# Altium integrated library TI Power Management Linear Regulator Single Channel LDO (0-350mA).IntLib: 1648 symbols (part 13 of 66)
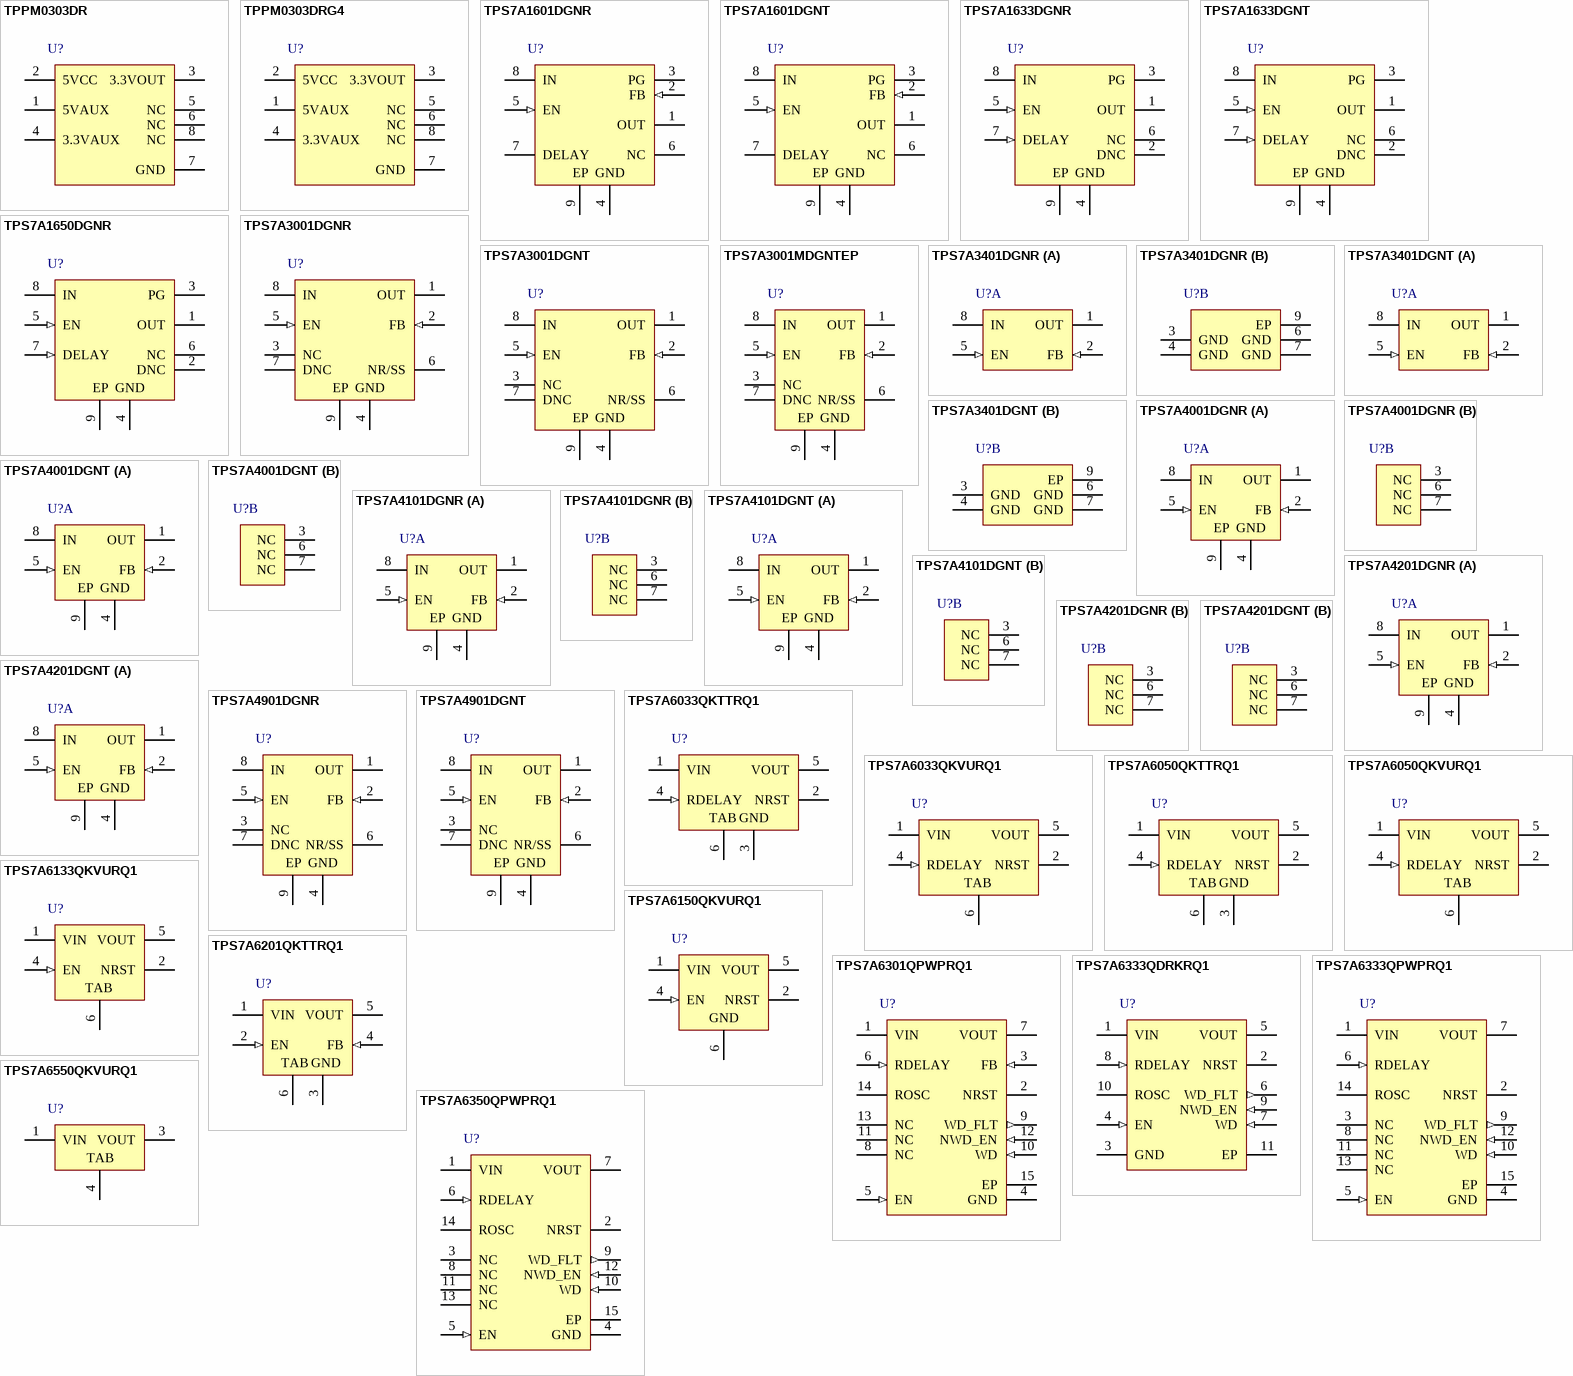
[diagram p54: symbols TPPM0303DR to TPS7A6550QKVURQ1]

## TPS7A3401DGNR
designator U?
Single Output Low Noise LDO, 200 mA, Adjustable -1.18 to -18 V Output, -3 to -20 V Input, 8-pin MSOP (DGN), -40 to 125 degC, Green (RoHS & no Sb/Br); Manufacturer: Texas Instruments; PartNumber: TPS7A3401DGNR; Accuracy(%): 1.5; Iout(Max)(A): 0.2; Iq(Typ)(mA): 0.05; SubFamily: Single Channel LDO; Vdo(Typ)(mV): 216; DatasheetVersion: SBVS163; PackageVersion: 4073271/F; PackageReference: DGN8-1760X1425TP; PackageDescription: 8-pin Plastic Small Outline, Body 3 x 3 mm, Pitch 0.65 mm; Supplier 1: Digi-Key; Supplier Part Number 1: 296-29103-2-ND; Supplier 2: Digi-Key; Supplier Part Number 2: 296-29103-1-ND; Supplier 3: Digi-Key; Supplier Part Number 3: 296-29103-6-ND; Supplier 4: Farnell; Supplier Part Number 4: 1972808; Supplier 5: Farnell; Supplier Part Number 5: 1972808RL; Supplier 6: Newark; Supplier Part Number 6: 59T0131; Supplier 7: Newark; Supplier Part Number 7: 58T0349; Supplier 8: Mouser; Supplier Part Number 8: 595-TPS7A3401DGNR; Eco-Plan: Green (RoHS & no Sb/Br); Vin(Max)(V): -20; Vin(Min)(V): -3; Vout Adj(Max)(V): -18; Vout Adj(Min)(V): -1.18; Mounting Technology: Surface Mount; Code_JEDEC: MO-187; ComponentLink1Description: Manufacturer URL; ComponentLink1URL: http://www.ti.com/; ComponentLink2Description: Datasheet; ComponentLink2URL: http://www.ti.com/general/docs/lit/getliterature.tsp?genericPartNumber=TPS7A3401&fileType=pdf; ComponentLink3Description: Package Specification; ComponentLink3URL: http://www.ti.com/litv/pdf/mpds046e
footprint TI-DGN8-1760X1425TP_N (SOIC, 8-Leads, Body 3x3mm, Pitch 0.65mm, Thermal Pad 1.76x1.425mm, IPC Medium Density)
footprint TI-DGN8-1760X1425TP_L (SOIC, 8-Leads, Body 3x3mm, Pitch 0.65mm, Thermal Pad 1.76x1.425mm, IPC High Density)
footprint TI-DGN8-1760X1425TP_M (SOIC, 8-Leads, Body 3x3mm, Pitch 0.65mm, Thermal Pad 1.76x1.425mm, IPC Low Density)
part A pins: 1 OUT (power) "Regulator output. A capacitor >= 10 uF must be tied from this pin to ground to assure stability.", 2 FB (in) "This pin is the input to the control-loop error amplifier. It is used to set the output voltage of the device.", 5 EN (in) "This pin turns the regulator on or off. If VEN >= V+EN_HI or VEN =< V-EN_HI, the regulator is enabled. If V+EN_LO >= VEN >= V-EN_LO, the regulator is disabled. The EN pin can be connected to IN, if not used. |VEN| =< |VIN|.", 8 IN (power) "Input supply"
part B pins: 3 GND (power) "Ground", 4 GND (power) "Ground", 6 GND (power) "Ground", 7 GND (power) "Ground", 9 EP (power) "Must either be left open or tied to GND. Solder to printed circuit board (PCB) plane to enhance thermal performance."

## TPS7A3401DGNT
designator U?
Single Output Low Noise LDO, 200 mA, Adjustable -1.18 to -18 V Output, -3 to -20 V Input, 8-pin MSOP (DGN), -40 to 125 degC, Green (RoHS & no Sb/Br); Manufacturer: Texas Instruments; PartNumber: TPS7A3401DGNT; Accuracy(%): 1.5; Iout(Max)(A): 0.2; Iq(Typ)(mA): 0.05; SubFamily: Single Channel LDO; Vdo(Typ)(mV): 216; DatasheetVersion: SBVS163; PackageVersion: 4073271/F; PackageReference: DGN8-1760X1425TP; PackageDescription: 8-pin Plastic Small Outline, Body 3 x 3 mm, Pitch 0.65 mm; Supplier 1: Digi-Key; Supplier Part Number 1: 296-29296-2-ND; Supplier 2: Digi-Key; Supplier Part Number 2: 296-29296-1-ND; Supplier 3: Digi-Key; Supplier Part Number 3: 296-29296-6-ND; Supplier 4: Farnell; Supplier Part Number 4: 1994878; Supplier 5: Newark; Supplier Part Number 5: 57T9644; Supplier 6: Mouser; Supplier Part Number 6: 595-TPS7A3401DGNT; Eco-Plan: Green (RoHS & no Sb/Br); Vin(Max)(V): -20; Vin(Min)(V): -3; Vout Adj(Max)(V): -18; Vout Adj(Min)(V): -1.18; Mounting Technology: Surface Mount; Code_JEDEC: MO-187; ComponentLink1Description: Manufacturer URL; ComponentLink1URL: http://www.ti.com/; ComponentLink2Description: Datasheet; ComponentLink2URL: http://www.ti.com/general/docs/lit/getliterature.tsp?genericPartNumber=TPS7A3401&fileType=pdf; ComponentLink3Description: Package Specification; ComponentLink3URL: http://www.ti.com/litv/pdf/mpds046e
footprint TI-DGN8-1760X1425TP_N (SOIC, 8-Leads, Body 3x3mm, Pitch 0.65mm, Thermal Pad 1.76x1.425mm, IPC Medium Density)
footprint TI-DGN8-1760X1425TP_L (SOIC, 8-Leads, Body 3x3mm, Pitch 0.65mm, Thermal Pad 1.76x1.425mm, IPC High Density)
footprint TI-DGN8-1760X1425TP_M (SOIC, 8-Leads, Body 3x3mm, Pitch 0.65mm, Thermal Pad 1.76x1.425mm, IPC Low Density)
part A pins: 1 OUT (power) "Regulator output. A capacitor >= 10 uF must be tied from this pin to ground to assure stability.", 2 FB (in) "This pin is the input to the control-loop error amplifier. It is used to set the output voltage of the device.", 5 EN (in) "This pin turns the regulator on or off. If VEN >= V+EN_HI or VEN =< V-EN_HI, the regulator is enabled. If V+EN_LO >= VEN >= V-EN_LO, the regulator is disabled. The EN pin can be connected to IN, if not used. |VEN| =< |VIN|.", 8 IN (power) "Input supply"
part B pins: 3 GND (power) "Ground", 4 GND (power) "Ground", 6 GND (power) "Ground", 7 GND (power) "Ground", 9 EP (power) "Must either be left open or tied to GND. Solder to printed circuit board (PCB) plane to enhance thermal performance."

## TPS7A4001DGNR
designator U?
Single Output LDO, 50 mA, Adjustable 1.175 to 90 V Output, 7 to 100 V Input, 8-pin MSOP (DGN), -40 to 125 degC, Green (RoHS & no Sb/Br); Manufacturer: Texas Instruments; PartNumber: TPS7A4001DGNR; Accuracy(%): 2.5; Iout(Max)(A): 0.05; Iq(Typ)(mA): 0.02; SubFamily: Single Channel LDO; Vdo(Typ)(mV): 290; Vin(Max)(V): 100; Vin(Min)(V): 7; Vout Adj(Max)(V): 90; Vout Adj(Min)(V): 1.2; DatasheetVersion: SBVS162A; PackageVersion: 4073271/F; PackageReference: DGN8-1880X1750TP; PackageDescription: 8-Pin Plastic Small Outline, Body 3 x 3 mm, Pitch 0.65 mm; Supplier 1: Digi-Key; Supplier Part Number 1: TPS7A4001DGNR-ND; Supplier 2: Newark; Supplier Part Number 2: 40T5454; Supplier 3: Mouser; Supplier Part Number 3: 595-TPS7A4001DGNR; Eco-Plan: Green (RoHS & no Sb/Br); Mounting Technology: Surface Mount; Code_JEDEC: MO-187; ComponentLink1Description: Manufacturer URL; ComponentLink1URL: http://www.ti.com/; ComponentLink2Description: Datasheet; ComponentLink2URL: http://www.ti.com/general/docs/lit/getliterature.tsp?genericPartNumber=TPS7A4001&fileType=pdf; ComponentLink3Description: Package Specification; ComponentLink3URL: http://www.ti.com/litv/pdf/mpds046e
footprint TI-DGN8-1880X1750TP_N (SOP, 8-Leads, Body 3x3mm, Pitch 0.65mm, Thermal Pad 1.88x1.75mm, IPC Medium Density)
footprint TI-DGN8-1880X1750TP_L (SOP, 8-Leads, Body 3x3mm, Pitch 0.65mm, Thermal Pad 1.88x1.75mm, IPC High Density)
footprint TI-DGN8-1880X1750TP_M (SOP, 8-Leads, Body 3x3mm, Pitch 0.65mm, Thermal Pad 1.88x1.75mm, IPC Low Density)
part A pins: 1 OUT (power) "Regulator output. A capacitor greater than 4.7 uF must be tied from this pin to ground to assure stability.", 2 FB (in) "This pin is the input to the control-loop error amplifier. It is used to set the output voltage of the device.", 4 GND (power) "Ground", 5 EN (in) "This pin turns the regulator on or off. If VEN >= VEN_HI the regulator is enabled. If VEN =< VEN_LO, the regulator is disabled. If not used, the EN pin can be connected to IN. Make sure that VEN =< VIN at all times.", 8 IN (power) "Input supply", 9 EP (power) "Solder to printed circuit board (PCB) to enhance thermal performance. NOTE: The PowerPAD is internally connected to GND. Although it can be left floating, it is highly recommended to connect the PowerPAD to the GND plane."
part B pins: 3 NC "Not internally connected. This pin must either be left open or tied to GND.", 6 NC "Not internally connected. This pin must either be left open or tied to GND.", 7 NC "Not internally connected. This pin must either be left open or tied to GND."

## TPS7A4001DGNT
designator U?
Single Output LDO, 50 mA, Adjustable 1.175 to 90 V Output, 7 to 100 V Input, 8-pin MSOP (DGN), -40 to 125 degC, Green (RoHS & no Sb/Br); Manufacturer: Texas Instruments; PartNumber: TPS7A4001DGNT; Accuracy(%): 2.5; Iout(Max)(A): 0.05; Iq(Typ)(mA): 0.02; SubFamily: Single Channel LDO; Vdo(Typ)(mV): 290; Vin(Max)(V): 100; Vin(Min)(V): 7; Vout Adj(Max)(V): 90; Vout Adj(Min)(V): 1.2; DatasheetVersion: SBVS162A; PackageVersion: 4073271/F; PackageReference: DGN8-1880X1750TP; PackageDescription: 8-Pin Plastic Small Outline, Body 3 x 3 mm, Pitch 0.65 mm; Supplier 1: Digi-Key; Supplier Part Number 1: 296-28330-2-ND; Supplier 2: Digi-Key; Supplier Part Number 2: 296-28330-1-ND; Supplier 3: Digi-Key; Supplier Part Number 3: 296-28330-6-ND; Supplier 4: Farnell; Supplier Part Number 4: 1898986; Supplier 5: Farnell; Supplier Part Number 5: 1898986RL; Supplier 6: Newark; Supplier Part Number 6: 40T5455; Supplier 7: Mouser; Supplier Part Number 7: 595-TPS7A4001DGNT; Eco-Plan: Green (RoHS & no Sb/Br); Mounting Technology: Surface Mount; Code_JEDEC: MO-187; ComponentLink1Description: Manufacturer URL; ComponentLink1URL: http://www.ti.com/; ComponentLink2Description: Datasheet; ComponentLink2URL: http://www.ti.com/general/docs/lit/getliterature.tsp?genericPartNumber=TPS7A4001&fileType=pdf; ComponentLink3Description: Package Specification; ComponentLink3URL: http://www.ti.com/litv/pdf/mpds046e
footprint TI-DGN8-1880X1750TP_N (SOP, 8-Leads, Body 3x3mm, Pitch 0.65mm, Thermal Pad 1.88x1.75mm, IPC Medium Density)
footprint TI-DGN8-1880X1750TP_L (SOP, 8-Leads, Body 3x3mm, Pitch 0.65mm, Thermal Pad 1.88x1.75mm, IPC High Density)
footprint TI-DGN8-1880X1750TP_M (SOP, 8-Leads, Body 3x3mm, Pitch 0.65mm, Thermal Pad 1.88x1.75mm, IPC Low Density)
part A pins: 1 OUT (power) "Regulator output. A capacitor greater than 4.7 uF must be tied from this pin to ground to assure stability.", 2 FB (in) "This pin is the input to the control-loop error amplifier. It is used to set the output voltage of the device.", 4 GND (power) "Ground", 5 EN (in) "This pin turns the regulator on or off. If VEN >= VEN_HI the regulator is enabled. If VEN =< VEN_LO, the regulator is disabled. If not used, the EN pin can be connected to IN. Make sure that VEN =< VIN at all times.", 8 IN (power) "Input supply", 9 EP (power) "Solder to printed circuit board (PCB) to enhance thermal performance. NOTE: The PowerPAD is internally connected to GND. Although it can be left floating, it is highly recommended to connect the PowerPAD to the GND plane."
part B pins: 3 NC "Not internally connected. This pin must either be left open or tied to GND.", 6 NC "Not internally connected. This pin must either be left open or tied to GND.", 7 NC "Not internally connected. This pin must either be left open or tied to GND."

## TPS7A4101DGNR
designator U?
Single Output LDO, 50 mA, Adjustable 1.175 to 48 V Output, 7 to 50 V Input, 8-pin MSOP (DGN), -40 to 125 degC, Green (RoHS & no Sb/Br); Manufacturer: Texas Instruments; PartNumber: TPS7A4101DGNR; Accuracy(%): 1; Iout(Max)(A): 0.05; Iq(Typ)(mA): 0.02; SubFamily: Single Channel LDO; Vdo(Typ)(mV): 290; Vin(Max)(V): 50; Vin(Min)(V): 7; Vout Adj(Max)(V): 48; Vout Adj(Min)(V): 1.161; DatasheetVersion: SBVS183; PackageVersion: 4073271/F; PackageReference: DGN8-1880X1750TP; PackageDescription: 8-Pin Plastic Small Outline, Body 3 x 3 mm, Pitch 0.65 mm; Supplier 1: Digi-Key; Supplier Part Number 1: 296-30081-2-ND; Supplier 2: Digi-Key; Supplier Part Number 2: 296-30081-1-ND; Supplier 3: Digi-Key; Supplier Part Number 3: 296-30081-6-ND; Supplier 4: Mouser; Supplier Part Number 4: 595-TPS7A4101DGNR; Eco-Plan: Green (RoHS & no Sb/Br); Mounting Technology: Surface Mount; Code_JEDEC: MO-187; ComponentLink1Description: Manufacturer URL; ComponentLink1URL: http://www.ti.com/; ComponentLink2Description: Datasheet; ComponentLink2URL: http://www.ti.com/general/docs/lit/getliterature.tsp?genericPartNumber=TPS7A4101&fileType=pdf; ComponentLink3Description: Package Specification; ComponentLink3URL: http://www.ti.com/litv/pdf/mpds046e
footprint TI-DGN8-1880X1750TP_N (SOP, 8-Leads, Body 3x3mm, Pitch 0.65mm, Thermal Pad 1.88x1.75mm, IPC Medium Density)
footprint TI-DGN8-1880X1750TP_L (SOP, 8-Leads, Body 3x3mm, Pitch 0.65mm, Thermal Pad 1.88x1.75mm, IPC High Density)
footprint TI-DGN8-1880X1750TP_M (SOP, 8-Leads, Body 3x3mm, Pitch 0.65mm, Thermal Pad 1.88x1.75mm, IPC Low Density)
part A pins: 1 OUT (power) "Regulator output. A capacitor greater than 4.7 uF must be tied from this pin to ground to assure stability.", 2 FB (in) "This pin is the input to the control-loop error amplifier. It is used to set the output voltage of the device.", 4 GND (power) "Ground", 5 EN (in) "This pin turns the regulator on or off. If VEN >= VEN_HI the regulator is enabled. If VEN =< VEN_LO, the regulator is disabled. If not used, the EN pin can be connected to IN. Make sure that VEN =< VIN at all times.", 8 IN (power) "Input supply", 9 EP (power) "Solder to printed circuit board (PCB) to enhance thermal performance. NOTE: The PowerPAD is internally connected to GND. Although it can be left floating, it is highly recommended to connect the PowerPAD to the GND plane."
part B pins: 3 NC "Not internally connected. This pin must either be left open or tied to GND.", 6 NC "Not internally connected. This pin must either be left open or tied to GND.", 7 NC "Not internally connected. This pin must either be left open or tied to GND."

## TPS7A4101DGNT
designator U?
Single Output LDO, 50 mA, Adjustable 1.175 to 48 V Output, 7 to 50 V Input, 8-pin MSOP (DGN), -40 to 125 degC, Green (RoHS & no Sb/Br); Manufacturer: Texas Instruments; PartNumber: TPS7A4101DGNT; Accuracy(%): 1; Iout(Max)(A): 0.05; Iq(Typ)(mA): 0.02; SubFamily: Single Channel LDO; Vdo(Typ)(mV): 290; Vin(Max)(V): 50; Vin(Min)(V): 7; Vout Adj(Max)(V): 48; Vout Adj(Min)(V): 1.161; DatasheetVersion: SBVS183; PackageVersion: 4073271/F; PackageReference: DGN8-1880X1750TP; PackageDescription: 8-Pin Plastic Small Outline, Body 3 x 3 mm, Pitch 0.65 mm; Supplier 1: Digi-Key; Supplier Part Number 1: 296-30184-2-ND; Supplier 2: Digi-Key; Supplier Part Number 2: 296-30184-1-ND; Supplier 3: Digi-Key; Supplier Part Number 3: 296-30184-6-ND; Supplier 4: Farnell; Supplier Part Number 4: 2078550; Supplier 5: Newark; Supplier Part Number 5: 82T9740; Supplier 6: Mouser; Supplier Part Number 6: 595-TPS7A4101DGNT; Eco-Plan: Green (RoHS & no Sb/Br); Mounting Technology: Surface Mount; Code_JEDEC: MO-187; ComponentLink1Description: Manufacturer URL; ComponentLink1URL: http://www.ti.com/; ComponentLink2Description: Datasheet; ComponentLink2URL: http://www.ti.com/general/docs/lit/getliterature.tsp?genericPartNumber=TPS7A4101&fileType=pdf; ComponentLink3Description: Package Specification; ComponentLink3URL: http://www.ti.com/litv/pdf/mpds046e
footprint TI-DGN8-1880X1750TP_N (SOP, 8-Leads, Body 3x3mm, Pitch 0.65mm, Thermal Pad 1.88x1.75mm, IPC Medium Density)
footprint TI-DGN8-1880X1750TP_L (SOP, 8-Leads, Body 3x3mm, Pitch 0.65mm, Thermal Pad 1.88x1.75mm, IPC High Density)
footprint TI-DGN8-1880X1750TP_M (SOP, 8-Leads, Body 3x3mm, Pitch 0.65mm, Thermal Pad 1.88x1.75mm, IPC Low Density)
part A pins: 1 OUT (power) "Regulator output. A capacitor greater than 4.7 uF must be tied from this pin to ground to assure stability.", 2 FB (in) "This pin is the input to the control-loop error amplifier. It is used to set the output voltage of the device.", 4 GND (power) "Ground", 5 EN (in) "This pin turns the regulator on or off. If VEN >= VEN_HI the regulator is enabled. If VEN =< VEN_LO, the regulator is disabled. If not used, the EN pin can be connected to IN. Make sure that VEN =< VIN at all times.", 8 IN (power) "Input supply", 9 EP (power) "Solder to printed circuit board (PCB) to enhance thermal performance. NOTE: The PowerPAD is internally connected to GND. Although it can be left floating, it is highly recommended to connect the PowerPAD to the GND plane."
part B pins: 3 NC "Not internally connected. This pin must either be left open or tied to GND.", 6 NC "Not internally connected. This pin must either be left open or tied to GND.", 7 NC "Not internally connected. This pin must either be left open or tied to GND."

## TPS7A4201DGNR
designator U?
Single Output LDO, 50 mA, Adjustable 1.175 to 26 V Output, 7 to 28 V Input, 8-pin MSOP (DGN), -40 to 125 degC, Green (RoHS & no Sb/Br); Manufacturer: Texas Instruments; PartNumber: TPS7A4201DGNR; Accuracy(%): 1; Iout(Max)(A): 0.05; Iq(Typ)(mA): 0.02; SubFamily: Single Channel LDO; Vdo(Typ)(mV): 290; Vin(Max)(V): 28; Vin(Min)(V): 7; Vout Adj(Max)(V): 26; Vout Adj(Min)(V): 1.161; DatasheetVersion: SBVS184; PackageVersion: 4073271/F; PackageReference: DGN8-1880X1750TP; PackageDescription: 8-Pin Plastic Small Outline, Body 3 x 3 mm, Pitch 0.65 mm; Supplier 1: Digi-Key; Supplier Part Number 1: 296-30082-2-ND; Supplier 2: Digi-Key; Supplier Part Number 2: 296-30082-1-ND; Supplier 3: Digi-Key; Supplier Part Number 3: 296-30082-6-ND; Supplier 4: Newark; Supplier Part Number 4: 76T8166; Supplier 5: Mouser; Supplier Part Number 5: 595-TPS7A4201DGNR; Eco-Plan: Green (RoHS & no Sb/Br); Mounting Technology: Surface Mount; Code_JEDEC: MO-187; ComponentLink1Description: Manufacturer URL; ComponentLink1URL: http://www.ti.com/; ComponentLink2Description: Datasheet; ComponentLink2URL: http://www.ti.com/general/docs/lit/getliterature.tsp?genericPartNumber=TPS7A4201&fileType=pdf; ComponentLink3Description: Package Specification; ComponentLink3URL: http://www.ti.com/litv/pdf/mpds046e
footprint TI-DGN8-1880X1750TP_N (SOP, 8-Leads, Body 3x3mm, Pitch 0.65mm, Thermal Pad 1.88x1.75mm, IPC Medium Density)
footprint TI-DGN8-1880X1750TP_L (SOP, 8-Leads, Body 3x3mm, Pitch 0.65mm, Thermal Pad 1.88x1.75mm, IPC High Density)
footprint TI-DGN8-1880X1750TP_M (SOP, 8-Leads, Body 3x3mm, Pitch 0.65mm, Thermal Pad 1.88x1.75mm, IPC Low Density)
part A pins: 1 OUT (power) "Regulator output. A capacitor greater than 4.7 uF must be tied from this pin to ground to assure stability.", 2 FB (in) "This pin is the input to the control-loop error amplifier. It is used to set the output voltage of the device.", 4 GND (power) "Ground", 5 EN (in) "This pin turns the regulator on or off. If VEN >= VEN_HI the regulator is enabled. If VEN =< VEN_LO, the regulator is disabled. If not used, the EN pin can be connected to IN. Make sure that VEN =< VIN at all times.", 8 IN (power) "Input supply", 9 EP (power) "Solder to printed circuit board (PCB) to enhance thermal performance. NOTE: The PowerPAD is internally connected to GND. Although it can be left floating, it is highly recommended to connect the PowerPAD to the GND plane."
part B pins: 3 NC "Not internally connected. This pin must either be left open or tied to GND.", 6 NC "Not internally connected. This pin must either be left open or tied to GND.", 7 NC "Not internally connected. This pin must either be left open or tied to GND."

## TPS7A4201DGNT
designator U?
Single Output LDO, 50 mA, Adjustable 1.175 to 26 V Output, 7 to 28 V Input, 8-pin MSOP (DGN), -40 to 125 degC, Green (RoHS & no Sb/Br); Manufacturer: Texas Instruments; PartNumber: TPS7A4201DGNT; Accuracy(%): 1; Iout(Max)(A): 0.05; Iq(Typ)(mA): 0.02; SubFamily: Single Channel LDO; Vdo(Typ)(mV): 290; Vin(Max)(V): 28; Vin(Min)(V): 7; Vout Adj(Max)(V): 26; Vout Adj(Min)(V): 1.161; DatasheetVersion: SBVS184; PackageVersion: 4073271/F; PackageReference: DGN8-1880X1750TP; PackageDescription: 8-Pin Plastic Small Outline, Body 3 x 3 mm, Pitch 0.65 mm; Supplier 1: Digi-Key; Supplier Part Number 1: 296-30185-2-ND; Supplier 2: Digi-Key; Supplier Part Number 2: 296-30185-1-ND; Supplier 3: Digi-Key; Supplier Part Number 3: 296-30185-6-ND; Supplier 4: Farnell; Supplier Part Number 4: 2078551; Supplier 5: Newark; Supplier Part Number 5: 82T9741; Supplier 6: Newark; Supplier Part Number 6: 76T8167; Supplier 7: Mouser; Supplier Part Number 7: 595-TPS7A4201DGNT; Eco-Plan: Green (RoHS & no Sb/Br); Mounting Technology: Surface Mount; Code_JEDEC: MO-187; ComponentLink1Description: Manufacturer URL; ComponentLink1URL: http://www.ti.com/; ComponentLink2Description: Datasheet; ComponentLink2URL: http://www.ti.com/general/docs/lit/getliterature.tsp?genericPartNumber=TPS7A4201&fileType=pdf; ComponentLink3Description: Package Specification; ComponentLink3URL: http://www.ti.com/litv/pdf/mpds046e
footprint TI-DGN8-1880X1750TP_N (SOP, 8-Leads, Body 3x3mm, Pitch 0.65mm, Thermal Pad 1.88x1.75mm, IPC Medium Density)
footprint TI-DGN8-1880X1750TP_L (SOP, 8-Leads, Body 3x3mm, Pitch 0.65mm, Thermal Pad 1.88x1.75mm, IPC High Density)
footprint TI-DGN8-1880X1750TP_M (SOP, 8-Leads, Body 3x3mm, Pitch 0.65mm, Thermal Pad 1.88x1.75mm, IPC Low Density)
part A pins: 1 OUT (power) "Regulator output. A capacitor greater than 4.7 uF must be tied from this pin to ground to assure stability.", 2 FB (in) "This pin is the input to the control-loop error amplifier. It is used to set the output voltage of the device.", 4 GND (power) "Ground", 5 EN (in) "This pin turns the regulator on or off. If VEN >= VEN_HI the regulator is enabled. If VEN =< VEN_LO, the regulator is disabled. If not used, the EN pin can be connected to IN. Make sure that VEN =< VIN at all times.", 8 IN (power) "Input supply", 9 EP (power) "Solder to printed circuit board (PCB) to enhance thermal performance. NOTE: The PowerPAD is internally connected to GND. Although it can be left floating, it is highly recommended to connect the PowerPAD to the GND plane."
part B pins: 3 NC "Not internally connected. This pin must either be left open or tied to GND.", 6 NC "Not internally connected. This pin must either be left open or tied to GND.", 7 NC "Not internally connected. This pin must either be left open or tied to GND."

## TPS7A4901DGNR
designator U?
Single Output High PSRR LDO, 150 mA, Adjustable 1.2 to 33 V Output, 3 to 36 V Input, with Ultra-Low Noise, 8-pin MSOP (DGN), -40 to 125 degC, Green (RoHS & no Sb/Br); Manufacturer: Texas Instruments; PartNumber: TPS7A4901DGNR; Accuracy(%): 1.5; Iout(Max)(A): 0.15; Iq(Typ)(mA): 0.06; Power Good: TRUE; SubFamily: Single Channel LDO; Vdo(Typ)(mV): 260; Vin(Max)(V): 36; Vin(Min)(V): 3; Vout Adj(Max)(V): 33; Vout Adj(Min)(V): 1.2; DatasheetVersion: SBVS121B; PackageVersion: 4073271/F; PackageReference: DGN8-1760X1425TP; PackageDescription: 8-pin Plastic Small Outline, Body 3 x 3 mm, Pitch 0.65 mm; Supplier 1: Digi-Key; Supplier Part Number 1: 296-27751-2-ND; Supplier 2: Digi-Key; Supplier Part Number 2: 296-27751-1-ND; Supplier 3: Digi-Key; Supplier Part Number 3: 296-27751-6-ND; Supplier 4: Newark; Supplier Part Number 4: 01T0879; Supplier 5: Mouser; Supplier Part Number 5: 595-TPS7A4901DGNR; Eco-Plan: Green (RoHS & no Sb/Br); Mounting Technology: Surface Mount; Code_JEDEC: MO-187; ComponentLink1Description: Manufacturer URL; ComponentLink1URL: http://www.ti.com/; ComponentLink2Description: Datasheet; ComponentLink2URL: http://www.ti.com/general/docs/lit/getliterature.tsp?genericPartNumber=TPS7A4901&fileType=pdf; ComponentLink3Description: Package Specification; ComponentLink3URL: http://www.ti.com/litv/pdf/mpds046e
footprint TI-DGN8-1760X1425TP_N (SOIC, 8-Leads, Body 3x3mm, Pitch 0.65mm, Thermal Pad 1.76x1.425mm, IPC Medium Density)
footprint TI-DGN8-1760X1425TP_L (SOIC, 8-Leads, Body 3x3mm, Pitch 0.65mm, Thermal Pad 1.76x1.425mm, IPC High Density)
footprint TI-DGN8-1760X1425TP_M (SOIC, 8-Leads, Body 3x3mm, Pitch 0.65mm, Thermal Pad 1.76x1.425mm, IPC Low Density)
pins: 1 OUT (power) "Regulator output. A capacitor >= 2.2uF must be tied from this pin to ground to assure stability.", 2 FB (in) "This pin is the input to the control-loop error amplifier. It is used to set the output voltage of the device", 3 NC "Not internally connected. This pin must either be left open or tied to GND.", 4 GND (power) "Ground", 5 EN (in), 6 NR/SS "Noise reduction pin. Connecting an external capacitor to this pin bypasses noise generated by the internal bandgap. This capacitor allows RMS noise to be reduced to very low levels and also controls the soft-start function.", 7 DNC "DO NOT CONNECT. Do not route this pin to any electrical net, not even GND or IN.", 8 IN (power) "Input supply", 9 EP (power) "Must either be left open or tied to GND. Solder to printed circuit board (PCB) plane to enhance thermal performance."

## TPS7A4901DGNT
designator U?
Single Output High PSRR LDO, 150 mA, Adjustable 1.2 to 33 V Output, 3 to 36 V Input, with Ultra-Low Noise, 8-pin MSOP (DGN), -40 to 125 degC, Green (RoHS & no Sb/Br); Manufacturer: Texas Instruments; PartNumber: TPS7A4901DGNT; Accuracy(%): 1.5; Iout(Max)(A): 0.15; Iq(Typ)(mA): 0.06; Power Good: TRUE; SubFamily: Single Channel LDO; Vdo(Typ)(mV): 260; Vin(Max)(V): 36; Vin(Min)(V): 3; Vout Adj(Max)(V): 33; Vout Adj(Min)(V): 1.2; DatasheetVersion: SBVS121B; PackageVersion: 4073271/F; PackageReference: DGN8-1760X1425TP; PackageDescription: 8-pin Plastic Small Outline, Body 3 x 3 mm, Pitch 0.65 mm; Supplier 1: Digi-Key; Supplier Part Number 1: 296-27769-2-ND; Supplier 2: Digi-Key; Supplier Part Number 2: 296-27769-1-ND; Supplier 3: Digi-Key; Supplier Part Number 3: 296-27769-6-ND; Supplier 4: Farnell; Supplier Part Number 4: 1841881RL; Supplier 5: Farnell; Supplier Part Number 5: 1841881; Supplier 6: Newark; Supplier Part Number 6: 86R9814; Supplier 7: Mouser; Supplier Part Number 7: 595-TPS7A4901DGNT; Eco-Plan: Green (RoHS & no Sb/Br); Mounting Technology: Surface Mount; Code_JEDEC: MO-187; ComponentLink1Description: Manufacturer URL; ComponentLink1URL: http://www.ti.com/; ComponentLink2Description: Datasheet; ComponentLink2URL: http://www.ti.com/general/docs/lit/getliterature.tsp?genericPartNumber=TPS7A4901&fileType=pdf; ComponentLink3Description: Package Specification; ComponentLink3URL: http://www.ti.com/litv/pdf/mpds046e
footprint TI-DGN8-1760X1425TP_N (SOIC, 8-Leads, Body 3x3mm, Pitch 0.65mm, Thermal Pad 1.76x1.425mm, IPC Medium Density)
footprint TI-DGN8-1760X1425TP_L (SOIC, 8-Leads, Body 3x3mm, Pitch 0.65mm, Thermal Pad 1.76x1.425mm, IPC High Density)
footprint TI-DGN8-1760X1425TP_M (SOIC, 8-Leads, Body 3x3mm, Pitch 0.65mm, Thermal Pad 1.76x1.425mm, IPC Low Density)
pins: 1 OUT (power) "Regulator output. A capacitor >= 2.2uF must be tied from this pin to ground to assure stability.", 2 FB (in) "This pin is the input to the control-loop error amplifier. It is used to set the output voltage of the device", 3 NC "Not internally connected. This pin must either be left open or tied to GND.", 4 GND (power) "Ground", 5 EN (in), 6 NR/SS "Noise reduction pin. Connecting an external capacitor to this pin bypasses noise generated by the internal bandgap. This capacitor allows RMS noise to be reduced to very low levels and also controls the soft-start function.", 7 DNC "DO NOT CONNECT. Do not route this pin to any electrical net, not even GND or IN.", 8 IN (power) "Input supply", 9 EP (power) "Must either be left open or tied to GND. Solder to printed circuit board (PCB) plane to enhance thermal performance."

## TPS7A6033QKTTRQ1
designator U?
Single Output Automotive LDO, 300 mA, Fixed 3.3 V Output, 4 to 40 V Input, 5-pin DDPAK (KTT), -40 to 125 degC, Green (RoHS & no Sb/Br); Manufacturer: Texas Instruments; PartNumber: TPS7A6033QKTTRQ1; Accuracy(%): 2; Fixed Output Options(V): 3.3; Iout(Max)(A): 0.3; Iq(Typ)(mA): 0.02; SubFamily: Single Channel LDO; Vdo(Typ)(mV): 300; Vin(Max)(V): 40; Vin(Min)(V): 4; DatasheetVersion: SLVSA62G; PackageVersion: 4200577-3/F; PackageReference: KTT5; PackageDescription: 3-Pin Plastic Flange Mount, Body 10.16 x 10.34 mm, Pitch 1.7 mm; Supplier 1: Digi-Key; Supplier Part Number 1: 296-27663-2-ND; Supplier 2: Digi-Key; Supplier Part Number 2: 296-27663-1-ND; Supplier 3: Digi-Key; Supplier Part Number 3: 296-27663-6-ND; Supplier 4: Newark; Supplier Part Number 4: 84R0678; Supplier 5: Mouser; Supplier Part Number 5: 595-TPS7A6033QKTTRQ1; Eco-Plan: Green (RoHS & no Sb/Br); Vout Adj(Max)(V): 3.3; Vout Adj(Min)(V): 3.3; Mounting Technology: Surface Mount; Code_JEDEC: TO-263; ComponentLink1Description: Manufacturer URL; ComponentLink1URL: http://www.ti.com/; ComponentLink2Description: Datasheet; ComponentLink2URL: http://www.ti.com/general/docs/lit/getliterature.tsp?genericPartNumber=TPS7A6033-Q1&fileType=pdf; ComponentLink3Description: Package Specification; ComponentLink3URL: http://www.ti.com/litv/pdf/mpsf007e
footprint TI-KTT5_N (DPAK, 5-Leads, Body 10.16x8.925mm, Pitch 1.7mm, IPC Medium Density)
footprint TI-KTT5_L (DPAK, 5-Leads, Body 10.16x8.925mm, Pitch 1.7mm, IPC High Density)
footprint TI-KTT5_M (DPAK, 5-Leads, Body 10.16x8.925mm, Pitch 1.7mm, IPC Low Density)
pins: 1 VIN (power) "Input voltage pin: The unregulated input voltage is supplied to this pin. A bypass capacitor is connected between VIN pin and GND pin to dampen input line transients.", 2 NRST (oc) "Reset pin: This is an output pin with an external pull up resistor connected to VOUT pin.", 3 GND (power) "Ground pin.", 4 RDELAY (in) "Reset delay timer pin (for TPS7A60xx only): This pin is used to program the reset delay timer using an external capacitor (CDLY) to ground.", 5 VOUT (power) "Regulated output voltage pin: This is a regulated voltage output (VOUT = 3.3V or 5V, as applicable) pin with a limitation on maximum output current. In order to achieve stable operation and prevent oscillation,an external (See Datasheet)", 6 TAB (power)

## TPS7A6033QKVURQ1
designator U?
Single Output Automotive LDO, 300 mA, Fixed 3.3 V Output, 4 to 40 V Input, 5-pin PFM (KVU), -40 to 125 degC, Green (RoHS & no Sb/Br); Manufacturer: Texas Instruments; PartNumber: TPS7A6033QKVURQ1; Accuracy(%): 2; Fixed Output Options(V): 3.3; Iout(Max)(A): 0.3; Iq(Typ)(mA): 0.02; SubFamily: Single Channel LDO; Vdo(Typ)(mV): 300; Vin(Max)(V): 40; Vin(Min)(V): 4; DatasheetVersion: SLVSA62G; PackageVersion: 4205521-3/D; PackageReference: KVU5; PackageDescription: 5-Pin Plastic Flange Mount, Body 6.1 x 6.6 mm, Pitch 1.14 mm; Supplier 1: Digi-Key; Supplier Part Number 1: 296-27888-2-ND; Supplier 2: Digi-Key; Supplier Part Number 2: 296-27888-1-ND; Supplier 3: Digi-Key; Supplier Part Number 3: 296-27888-6-ND; Supplier 4: Newark; Supplier Part Number 4: 01T0880; Supplier 5: Mouser; Supplier Part Number 5: 595-TPS7A6033QKVURQ1; Eco-Plan: Green (RoHS & no Sb/Br); Vout Adj(Max)(V): 3.3; Vout Adj(Min)(V): 3.3; Mounting Technology: Surface Mount; Code_JEDEC: TO-252; ComponentLink1Description: Manufacturer URL; ComponentLink1URL: http://www.ti.com/; ComponentLink2Description: Datasheet; ComponentLink2URL: http://www.ti.com/general/docs/lit/getliterature.tsp?genericPartNumber=TPS7A6033-Q1&fileType=pdf; ComponentLink3Description: Package Specification; ComponentLink3URL: http://www.ti.com/lit/ml/mpsf019/mpsf019.pdf
footprint TI-KVU5_N (DPAK, 5-Leads, Body 6.6x6.095mm, Pitch 1.14mm, IPC Medium Density)
footprint TI-KVU5_L (DPAK, 5-Leads, Body 6.6x6.095mm, Pitch 1.14mm, IPC High Density)
footprint TI-KVU5_M (DPAK, 5-Leads, Body 6.6x6.095mm, Pitch 1.14mm, IPC Low Density)
pins: 1 VIN (power) "Input voltage pin: The unregulated input voltage is supplied to this pin. A bypass capacitor is connected between VIN pin and GND pin to dampen input line transients.", 2 NRST (oc) "Reset pin: This is an output pin with an external pull up resistor connected to VOUT pin.", 4 RDELAY (in) "Reset delay timer pin: This pin is used to program the reset delay timer using an external capacitor (CDLY) to ground.", 5 VOUT (power) "Regulated output voltage pin: This is a regulated voltage output (VOUT = 3.3V or 5V, as applicable) pin with a limitation on maximum output current. In order to achieve stable operation and prevent oscillation, an external (See Datasheet)", 6 TAB (power) "Exposed thermal tab"

## TPS7A6050QKTTRQ1
designator U?
Single Output Automotive LDO, 300 mA, Fixed 5 V Output, 4 to 40 V Input, 5-pin DDPAK (KTT), -40 to 125 degC, Green (RoHS & no Sb/Br); Manufacturer: Texas Instruments; PartNumber: TPS7A6050QKTTRQ1; Accuracy(%): 2; Fixed Output Options(V): 5; Iout(Max)(A): 0.3; Iq(Typ)(mA): 0.02; SubFamily: Single Channel LDO; Vdo(Typ)(mV): 300; Vin(Max)(V): 40; Vin(Min)(V): 4; DatasheetVersion: SLVSA62G; PackageVersion: 4200577-3/F; PackageReference: KTT5; PackageDescription: 3-Pin Plastic Flange Mount, Body 10.16 x 10.34 mm, Pitch 1.7 mm; Supplier 1: Digi-Key; Supplier Part Number 1: 296-27206-2-ND; Supplier 2: Digi-Key; Supplier Part Number 2: 296-27206-1-ND; Supplier 3: Digi-Key; Supplier Part Number 3: 296-27206-6-ND; Supplier 4: Mouser; Supplier Part Number 4: 595-TPS7A6050QKTTRQ1; Eco-Plan: Green (RoHS & no Sb/Br); Vout Adj(Max)(V): 5; Vout Adj(Min)(V): 5; Mounting Technology: Surface Mount; Code_JEDEC: TO-263; ComponentLink1Description: Manufacturer URL; ComponentLink1URL: http://www.ti.com/; ComponentLink2Description: Datasheet; ComponentLink2URL: http://www.ti.com/general/docs/lit/getliterature.tsp?genericPartNumber=TPS7A6050-Q1&fileType=pdf; ComponentLink3Description: Package Specification; ComponentLink3URL: http://www.ti.com/litv/pdf/mpsf007e
footprint TI-KTT5_N (DPAK, 5-Leads, Body 10.16x8.925mm, Pitch 1.7mm, IPC Medium Density)
footprint TI-KTT5_L (DPAK, 5-Leads, Body 10.16x8.925mm, Pitch 1.7mm, IPC High Density)
footprint TI-KTT5_M (DPAK, 5-Leads, Body 10.16x8.925mm, Pitch 1.7mm, IPC Low Density)
pins: 1 VIN (power) "Input voltage pin: The unregulated input voltage is supplied to this pin. A bypass capacitor is connected between VIN pin and GND pin to dampen input line transients.", 2 NRST (oc) "Reset pin: This is an output pin with an external pull up resistor connected to VOUT pin.", 3 GND (power) "Ground pin.", 4 RDELAY (in) "Reset delay timer pin (for TPS7A60xx only): This pin is used to program the reset delay timer using an external capacitor (CDLY) to ground.", 5 VOUT (power) "Regulated output voltage pin: This is a regulated voltage output (VOUT = 3.3V or 5V, as applicable) pin with a limitation on maximum output current. In order to achieve stable operation and prevent oscillation,an external (See Datasheet)", 6 TAB (power)

## TPS7A6050QKVURQ1
designator U?
Single Output Automotive LDO, 300 mA, Fixed 5 V Output, 4 to 40 V Input, 5-pin PFM (KVU), -40 to 125 degC, Green (RoHS & no Sb/Br); Manufacturer: Texas Instruments; PartNumber: TPS7A6050QKVURQ1; Accuracy(%): 2; Fixed Output Options(V): 5; Iout(Max)(A): 0.3; Iq(Typ)(mA): 0.02; SubFamily: Single Channel LDO; Vdo(Typ)(mV): 300; Vin(Max)(V): 40; Vin(Min)(V): 4; DatasheetVersion: SLVSA62G; PackageVersion: 4205521-3/D; PackageReference: KVU5; PackageDescription: 5-Pin Plastic Flange Mount, Body 6.1 x 6.6 mm, Pitch 1.14 mm; Supplier 1: Digi-Key; Supplier Part Number 1: 296-27408-2-ND; Supplier 2: Digi-Key; Supplier Part Number 2: 296-27408-1-ND; Supplier 3: Digi-Key; Supplier Part Number 3: 296-27408-6-ND; Supplier 4: Newark; Supplier Part Number 4: 01T0881; Supplier 5: Mouser; Supplier Part Number 5: 595-TPS7A6050QKVURQ1; Eco-Plan: Green (RoHS & no Sb/Br); Vout Adj(Max)(V): 5; Vout Adj(Min)(V): 5; Mounting Technology: Surface Mount; Code_JEDEC: TO-252; ComponentLink1Description: Manufacturer URL; ComponentLink1URL: http://www.ti.com/; ComponentLink2Description: Datasheet; ComponentLink2URL: http://www.ti.com/general/docs/lit/getliterature.tsp?genericPartNumber=TPS7A6050-Q1&fileType=pdf; ComponentLink3Description: Package Specification; ComponentLink3URL: http://www.ti.com/lit/ml/mpsf019/mpsf019.pdf
footprint TI-KVU5_N (DPAK, 5-Leads, Body 6.6x6.095mm, Pitch 1.14mm, IPC Medium Density)
footprint TI-KVU5_L (DPAK, 5-Leads, Body 6.6x6.095mm, Pitch 1.14mm, IPC High Density)
footprint TI-KVU5_M (DPAK, 5-Leads, Body 6.6x6.095mm, Pitch 1.14mm, IPC Low Density)
pins: 1 VIN (power) "Input voltage pin: The unregulated input voltage is supplied to this pin. A bypass capacitor is connected between VIN pin and GND pin to dampen input line transients.", 2 NRST (oc) "Reset pin: This is an output pin with an external pull up resistor connected to VOUT pin.", 4 RDELAY (in) "Reset delay timer pin: This pin is used to program the reset delay timer using an external capacitor (CDLY) to ground.", 5 VOUT (power) "Regulated output voltage pin: This is a regulated voltage output (VOUT = 3.3V or 5V, as applicable) pin with a limitation on maximum output current. In order to achieve stable operation and prevent oscillation, an external (See Datasheet)", 6 TAB (power) "Exposed thermal tab"

## TPS7A6133QKVURQ1
designator U?
Single Output Automotive LDO, 300 mA, Fixed 3.3 V Output, 4 to 40 V Input, with Ultra-Low IQ, 5-pin PFM (KVU), -40 to 125 degC, Green (RoHS & no Sb/Br); Manufacturer: Texas Instruments; PartNumber: TPS7A6133QKVURQ1; Fixed Output Options(V): 3.3; Iout(Max)(A): 0.3; Iq(Typ)(mA): 0.02; SubFamily: Single Channel LDO; Vdo(Typ)(mV): 300; Vin(Max)(V): 40; Vin(Min)(V): 4; DatasheetVersion: SLVSA62G; PackageVersion: 4205521-3/D; PackageReference: KVU5; PackageDescription: 5-Pin Plastic Flange Mount, Body 6.1 x 6.6 mm, Pitch 1.14 mm; Supplier 1: Digi-Key; Supplier Part Number 1: TPS7A6133QKVURQ1-ND; Supplier 2: Newark; Supplier Part Number 2: 27T6867; Supplier 3: Mouser; Supplier Part Number 3: 595-TPS7A6133QKVURQ1; Eco-Plan: Green (RoHS & no Sb/Br); Vout Adj(Max)(V): 3.3; Vout Adj(Min)(V): 3.3; Mounting Technology: Surface Mount; Code_JEDEC: TO-252; ComponentLink1Description: Manufacturer URL; ComponentLink1URL: http://www.ti.com/; ComponentLink2Description: Datasheet; ComponentLink2URL: http://www.ti.com/general/docs/lit/getliterature.tsp?genericPartNumber=TPS7A6133-Q1&fileType=pdf; ComponentLink3Description: Package Specification; ComponentLink3URL: http://www.ti.com/lit/ml/mpsf019/mpsf019.pdf
footprint TI-KVU5_N (DPAK, 5-Leads, Body 6.6x6.095mm, Pitch 1.14mm, IPC Medium Density)
footprint TI-KVU5_L (DPAK, 5-Leads, Body 6.6x6.095mm, Pitch 1.14mm, IPC High Density)
footprint TI-KVU5_M (DPAK, 5-Leads, Body 6.6x6.095mm, Pitch 1.14mm, IPC Low Density)
pins: 1 VIN (power) "Input voltage pin: The unregulated input voltage is supplied to this pin. A bypass capacitor is connected between VIN pin and GND pin to dampen input line transients.", 2 NRST (oc) "Reset pin: This is an output pin with an external pull up resistor connected to VOUT pin.", 4 EN (in) "Enable pin (for TPS7A61xx only): This is a high voltage tolerant input pin with an internal pull down. A high input to this pin activates the device and turns the regulator ON. This input can be connected to VIN terminal for (See Datasheet)", 5 VOUT (power) "Regulated output voltage pin: This is a regulated voltage output (VOUT = 3.3V or 5V, as applicable) pin with a limitation on maximum output current. In order to achieve stable operation and prevent oscillation, an external (See Datasheet)", 6 TAB (power)

## TPS7A6150QKVURQ1
designator U?
Single Output Automotive LDO, 300 mA, Fixed 5 V Output, 4 to 40 V Input, with Ultra-Low IQ, 5-pin PFM (KVU), -40 to 125 degC, Green (RoHS & no Sb/Br); Manufacturer: Texas Instruments; PartNumber: TPS7A6150QKVURQ1; Accuracy(%): 2; Fixed Output Options(V): 5; Iout(Max)(A): 0.3; Iq(Typ)(mA): 0.02; SubFamily: Single Channel LDO; Vdo(Typ)(mV): 300; Vin(Max)(V): 40; Vin(Min)(V): 4; DatasheetVersion: SLVSA62G; PackageVersion: 4205521-3/D; PackageReference: KVU5; PackageDescription: 5-Pin Plastic Flange Mount, Body 6.1 x 6.6 mm, Pitch 1.14 mm; Supplier 1: Digi-Key; Supplier Part Number 1: TPS7A6150QKVURQ1-ND; Supplier 2: Newark; Supplier Part Number 2: 92T2393; Supplier 3: Mouser; Supplier Part Number 3: 595-TPS7A6150QKVURQ1; Eco-Plan: Green (RoHS & no Sb/Br); Vout Adj(Max)(V): 5; Vout Adj(Min)(V): 5; Mounting Technology: Surface Mount; Code_JEDEC: TO-252; ComponentLink1Description: Manufacturer URL; ComponentLink1URL: http://www.ti.com/; ComponentLink2Description: Datasheet; ComponentLink2URL: http://www.ti.com/general/docs/lit/getliterature.tsp?genericPartNumber=TPS7A6150-Q1&fileType=pdf; ComponentLink3Description: Package Specification; ComponentLink3URL: http://www.ti.com/lit/ml/mpsf019/mpsf019.pdf
footprint TI-KVU5_N (DPAK, 5-Leads, Body 6.6x6.095mm, Pitch 1.14mm, IPC Medium Density)
footprint TI-KVU5_L (DPAK, 5-Leads, Body 6.6x6.095mm, Pitch 1.14mm, IPC High Density)
footprint TI-KVU5_M (DPAK, 5-Leads, Body 6.6x6.095mm, Pitch 1.14mm, IPC Low Density)
pins: 1 VIN (power) "Input voltage pin: The unregulated input voltage is supplied to this pin. A bypass capacitor is connected between VIN pin and GND pin to dampen input line transients.", 2 NRST (oc) "Reset pin: This is an output pin with an external pull up resistor connected to VOUT pin.", 4 EN (in) "Enable pin (for TPS7A61xx only): This is a high voltage tolerant input pin with an internal pull down. A high input to this pin activates the device and turns the regulator ON. This input can be connected to VIN terminal for (See Datasheet)", 5 VOUT (power) "Regulated output voltage pin: This is a regulated voltage output (VOUT = 3.3V or 5V, as applicable) pin with a limitation on maximum output current. In order to achieve stable operation and prevent oscillation, an external (See Datasheet)", 6 GND (power) "Ground"

## TPS7A6201QKTTRQ1
designator U?
Single Output Automotive LDO, 300 mA, Adjustable 2.5 to 7 V Output, 4 to 40 V Input, with Ultra-Low IQ, 5-pin DDPAK (KTT), -40 to 125 degC, Green (RoHS & no Sb/Br); Manufacturer: Texas Instruments; PartNumber: TPS7A6201QKTTRQ1; Accuracy(%): 2; Iout(Max)(A): 0.3; Iq(Typ)(mA): 0.02; SubFamily: Single Channel LDO; Vdo(Typ)(mV): 300; Vin(Max)(V): 40; Vin(Min)(V): 4; Vout Adj(Max)(V): 7; Vout Adj(Min)(V): 2.5; DatasheetVersion: SLVSAA0B; PackageVersion: 4200577-3/F; PackageReference: KTT5; PackageDescription: 3-Pin Plastic Flange Mount, Body 10.16 x 10.34 mm, Pitch 1.7 mm; Supplier 1: Digi-Key; Supplier Part Number 1: 296-28417-2-ND; Supplier 2: Digi-Key; Supplier Part Number 2: 296-28417-1-ND; Supplier 3: Digi-Key; Supplier Part Number 3: 296-28417-6-ND; Supplier 4: Newark; Supplier Part Number 4: 40T5458; Supplier 5: Mouser; Supplier Part Number 5: 595-TPS7A6201QKTTRQ1; Eco-Plan: Green (RoHS & no Sb/Br); Mounting Technology: Surface Mount; Code_JEDEC: TO-263; ComponentLink1Description: Manufacturer URL; ComponentLink1URL: http://www.ti.com/; ComponentLink2Description: Datasheet; ComponentLink2URL: http://www.ti.com/general/docs/lit/getliterature.tsp?genericPartNumber=TPS7A6201-Q1&fileType=pdf; ComponentLink3Description: Package Specification; ComponentLink3URL: http://www.ti.com/litv/pdf/mpsf007e
footprint TI-KTT5_N (DPAK, 5-Leads, Body 10.16x8.925mm, Pitch 1.7mm, IPC Medium Density)
footprint TI-KTT5_L (DPAK, 5-Leads, Body 10.16x8.925mm, Pitch 1.7mm, IPC High Density)
footprint TI-KTT5_M (DPAK, 5-Leads, Body 10.16x8.925mm, Pitch 1.7mm, IPC Low Density)
pins: 1 VIN (power) "Input voltage pin: The unregulated input voltage is supplied to this pin. A bypass capacitor shall be connected between VIN pin and GND pin to dampen input line transients.", 2 EN (in) "Enable pin: This is a high voltage tolerant input pin with an internal pull down. A high input to this pin activates the device and turns the regulator ON. This input can be connected to VIN terminal for self bias (See Datasheet)", 3 GND (power) "Ground pin: This is signal ground pin of the IC.", 4 FB (in) "Feedback pin: This pin is used to connect external resistors to ground in order to program the output voltage.", 5 VOUT (power) "Regulated output voltage pin: This is a regulated output voltage pin with a limitation on maximum output current. An external resistor divider is connected at this pin to program the output voltage. In order to achieve (See Datasheet)", 6 TAB (power)

## TPS7A6301QPWPRQ1
designator U?
Single Output Automotive LDO, 200 mA, Adjustable 2.5 to 7 V Output, 4 to 40 V Input, with Ultra-Low IQ, 14-pin HTSSOP (PWP), -40 to 125 degC, Green (RoHS & no Sb/Br); Manufacturer: Texas Instruments; PartNumber: TPS7A6301QPWPRQ1; Accuracy(%): 2; Iout(Max)(A): 0.2; Iq(Typ)(mA): 0.02; Power Good: TRUE; SubFamily: Single Channel LDO; Vdo(Typ)(mV): 300; Vin(Max)(V): 40; Vin(Min)(V): 4; Vout Adj(Max)(V): 7; Vout Adj(Min)(V): 2.5; DatasheetVersion: SLVSAB1D; PackageVersion: 4073225-2/I; PackageReference: PWP14-1830X2055TP; PackageDescription: 14-Pin Plastic Small Outline, Body 5 x 4.4 mm, Pitch 0.65 mm; Supplier 1: Digi-Key; Supplier Part Number 1: 296-29825-2-ND; Supplier 2: Digi-Key; Supplier Part Number 2: 296-29825-1-ND; Supplier 3: Digi-Key; Supplier Part Number 3: 296-29825-6-ND; Supplier 4: Mouser; Supplier Part Number 4: 595-TPS7A6301QPWPRQ1; Eco-Plan: Green (RoHS & no Sb/Br); Mounting Technology: Surface Mount; Code_JEDEC: MO-153; ComponentLink1Description: Manufacturer URL; ComponentLink1URL: http://www.ti.com/; ComponentLink2Description: Datasheet; ComponentLink2URL: http://www.ti.com/general/docs/lit/getliterature.tsp?genericPartNumber=TPS7A6301-Q1&fileType=pdf; ComponentLink3Description: Package Specification; ComponentLink3URL: http://www.ti.com/litv/pdf/mpds373
footprint TI-PWP14-1830X2055TP_N (SOP, 14-Leads, Body 5x4.4mm, Pitch 0.65mm, Thermal Pad 1.830X2.055mm, IPC Medium Density)
footprint TI-PWP14-1830X2055TP_L (SOP, 14-Leads, Body 5x4.4mm, Pitch 0.65mm, Thermal Pad 1.830X2.055mm, IPC High Density)
footprint TI-PWP14-1830X2055TP_M (SOP, 14-Leads, Body 5x4.4mm, Pitch 0.65mm, Thermal Pad 1.830X2.055mm, IPC Low Density)
pins: 1 VIN (power) "Input voltage pin: The unregulated input voltage is supplied to this pin. A bypass capacitor connected between the VIN pin and GND pin dampens line transients on the input.", 2 NRST (oc) "Reset pin: This is an open-drain reset output pin with an external pullup resistor connected to the VOUT pin.", 3 FB (in) "Feedback pin (only applicable for TPS7A6x01-Q1): Sense voltage for error amplifier", 4 GND (power) "Ground pin: This is signal ground pin of the IC.", 5 EN (in) "Chip enable pin: This is a high-voltage-tolerant input pin with an internal pulldown. A high input to this pin Chip enable pin: This is a high-voltage-tolerant input pin with an internal pulldown. A high input to this pin If (See Datasheet)", 6 RDELAY (in) "Reset delay timer pin: This pin programs the reset delay timer using an external capacitor (CDLY) to ground.", 7 VOUT (power) "Regulated output voltage pin: This is a regulated voltage output (VOUT= 3.3 V or 5 V or a programmed value) pin with a limitation on maximum output current. For devices with adjustable output voltage (TPS7A6x01-Q1), (See Datasheet)", 8 NC "Not connected", 9 WD_FLT (out) "Watchdog fault pin (for TPS7A63xx-Q1 only): This is an active-low fault output pin with an external pullup resistor connected to the VOUT pin.", 10 WD (in) "Watchdog service pin: This is an input pin to provide a service signal to the watchdog.", 11 NC "Not connected", 12 NWD_EN (in) "Watchdog enable pin: A high input to this pin disables the watchdog, and vice versa. This is an active-low input pin with an internal pulldown. Leaving this pin is unconnected and floating keeps the watchdog enabled. An (See Datasheet)", 13 NC "Not connected", 14 ROSC "ROscillator pin: This pin programs the internal oscillator frequency (and hence the duration of the watchdog window) by connecting an external resistor to ground.", 15 EP "Exposed Thermal Pad"

## TPS7A6333QDRKRQ1
designator U?
Single Output Automotive LDO, 200 mA, Fixed 3.3 V Output, 4 to 40 V Input, with Ultra-Low IQ, 10-pin VSON (DRK), -40 to 125 degC, Green (RoHS & no Sb/Br); Manufacturer: Texas Instruments; PartNumber: TPS7A6333QDRKRQ1; Accuracy(%): 2; Fixed Output Options(V): 3.3; Iout(Max)(A): 0.2; Iq(Typ)(mA): 0.02; Power Good: TRUE; SubFamily: Single Channel LDO; Vdo(Typ)(mV): 300; Vin(Max)(V): 40; Vin(Min)(V): 4; DatasheetVersion: SLVSAB1D; PackageVersion: 4205621/D; PackageReference: DRK10-2050X2650TP; PackageDescription: 10-Pin Plastic Small Outline, Body 3 x 4 mm, Pitch 0.5 mm; Supplier 1: Digi-Key; Supplier Part Number 1: 296-30128-2-ND; Supplier 2: Digi-Key; Supplier Part Number 2: 296-30128-1-ND; Supplier 3: Digi-Key; Supplier Part Number 3: 296-30128-6-ND; Supplier 4: Mouser; Supplier Part Number 4: 595-TPS7A6333QDRKRQ1; Eco-Plan: Green (RoHS & no Sb/Br); Vout Adj(Max)(V): 3.3; Vout Adj(Min)(V): 3.3; Mounting Technology: Surface Mount; ComponentLink1Description: Manufacturer URL; ComponentLink1URL: http://www.ti.com/; ComponentLink2Description: Datasheet; ComponentLink2URL: http://www.ti.com/general/docs/lit/getliterature.tsp?genericPartNumber=TPS7A6333-Q1&fileType=pdf; ComponentLink3Description: Package Specification; ComponentLink3URL: http://www.ti.com/lit/ml/mpds157c/mpds157c.pdf
footprint TI-DRK10-2050X2650TP_V (SON, 10-Leads, Body 4x3mm, Pitch 0.5mm, Thermal Pad 3.8x2.65mm)
pins: 1 VIN (power) "Input voltage pin: The unregulated input voltage is supplied to this pin. A bypass capacitor connected between the VIN pin and GND pin dampens line transients on the input.", 2 NRST (oc) "Reset pin: This is an open-drain reset output pin with an external pullup resistor connected to the VOUT pin.", 3 GND (power) "Ground pin: This is signal ground pin of the IC.", 4 EN (in) "Chip enable pin: This is a high-voltage-tolerant input pin with an internal pulldown. A high input to this pin activates the device and turns the regulator ON. Connect this input to the VIN terminal for self-bias (See Datasheet)", 5 VOUT (power) "Regulated output voltage pin: This is a regulated voltage output (VOUT = 3.3 V or 5 V or a programmed value) pin  with a limitation on maximum output current. For devices with adjustable output voltage, connecting an (See Datasheet)", 6 WD_FLT (out) "Watchdog fault pin: This is an active-low fault output pin with an external pullup resistor connected to the VOUT pin.", 7 WD (in) "Watchdog service pin: This is an input pin to provide a service signal to the watchdog.", 8 RDELAY (in) "Reset delay timer pin: This pin programs the reset delay timer using an external capacitor (CDLY) to ground.", 9 NWD_EN (in) "Watchdog enable pin: A high input to this pin disables the watchdog, and vice versa. This is an active-low input  pin with an internal pulldown. Leaving this pin is unconnected and floating keeps the watchdog enabled. An (See Datasheet)", 10 ROSC "ROscillator pin: This pin programs the internal oscillator frequency (and hence the duration of the watchdog window) by connecting an external resistor to ground.", 11 EP "Exposed thermal pad"